# Altium footprint library 691102710002.PcbLib: 2 footprints
Each footprint in its own frame and in the unit in brackets; x right, y up, seen from the top. Pads: shape width x height; smd on the part's side, far side on the other; paste and mask are expansions set on the pad; w line width, h text height; cw(c..) or ccw(c..) is an arc to the next point about the centre after c.
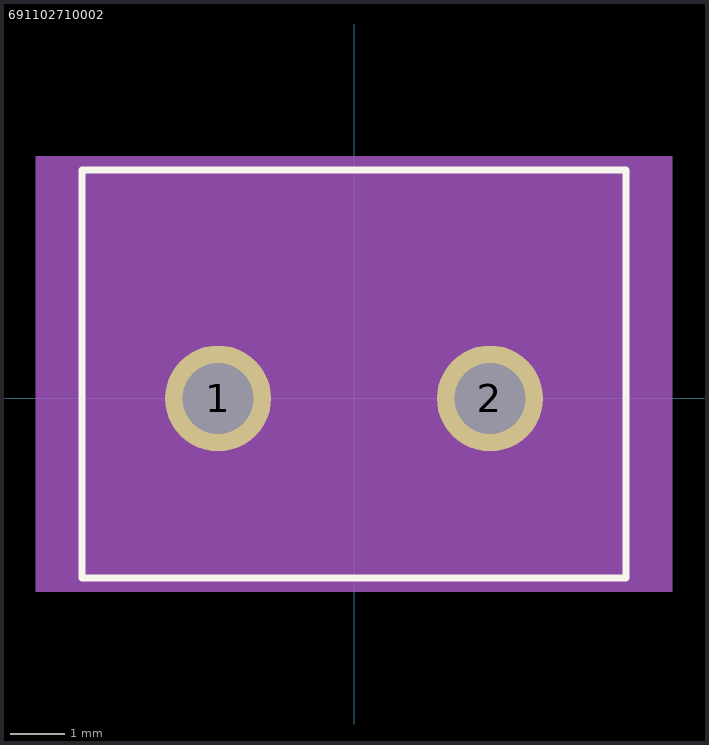
[diagram p0: the footprints below, top view; thin cyan lines are the x and y axes]

## 691102710002 [mm]
pads (2):
  round 1.95 hole 1.3: 1(-2.5,0) 2(2.5,0)
Top Overlay:
  lines w0.127: -5,-3.3 -5,4.2 5,4.2 5,-3.3 -5,-3.3
Mechanical 1:
  text "1" at -3.656,-2.654 h1.88
Mechanical 4:
  region: -5.85,4.45 5.85,4.45 5.85,-3.55 -5.85,-3.55

## PCBComponent_1 [mm]